# Altium schematic symbol library 五向开关.SchLib: 2 symbols
Pins are listed as number, name and electrical type; pins without a type are passive.

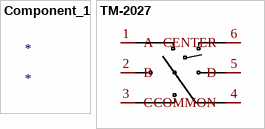
[diagram p0: symbols Component_1 to TM-2027]

## Component_1
designator *

## TM-2027
designator SW??  (value not drawn)
Manufacturer: XKB Connectivity(中国星坤); Add into BOM: yes; Name: TM-2027; Symbol: TM-2027; Device: TM-2027; LCSC Part Name: 10*10多功能五向开关; Supplier Part: C318948; Manufacturer Part: TM-2027; Supplier Footprint: SMD; JLCPCB Part Class: Extended Part; Datasheet: https://atta.szlcsc.com/upload/public/pdf/source/20211015/9A47D7046B5F70B5D407F93F21F2FBAF.pdf; Supplier: LCSC; Convert to PCB: yes
footprint SW-SMD_6P-P2.80-L10.2-W10.2
3D model SW-SMD_6P-P2.80-L10.2-W10.2
pins: 1 A, 2 B, 3 C, 4 COMMON, 5 D, 6 CENTER